# EAGLE library part MAX31850KATB+ (library Oles komponentbibliotek)
Cold-junction compensated, 1-wire thermocouple-to-digital converter
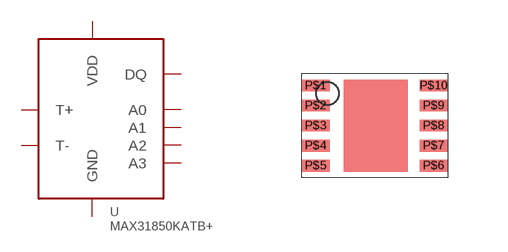
[diagram p44: symbol with the pads of TDFN-EP-10; footprint TDFN-EP-10]

Designator prefix -

## MAX31850KATB+  [TDFN-EP-10]
P$1  GND  pwr
P$2  T-  in
P$3  T+  in
P$4  VDD  pwr
P$5  DQ
P$6  A0  in
P$7  A1  in
P$8  A2  in
P$9  A3  in

## Footprint TDFN-EP-10 (pad centres in mm)
10 pin TDFN, exposed pad
smd 0.7 x 0.3: P$1 -1.5,1; P$2 -1.5,0.5; P$3 -1.5,0; P$4 -1.5,-0.5; P$5 -1.5,-1; P$6 1.45,-1; P$7 1.45,-0.5; P$8 1.45,0; P$9 1.45,0.5; P$10 1.45,1